# Altium schematic symbol library DRV8313PWP.SchLib: 2 symbols
Pins are listed as number, name and electrical type; pins without a type are passive.

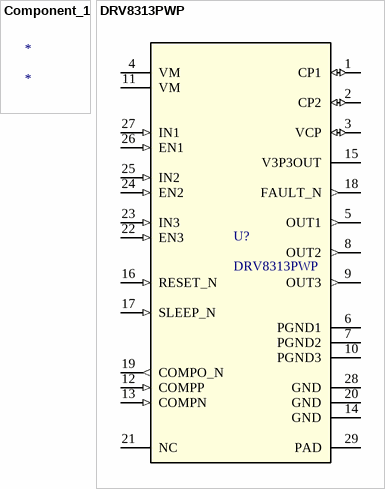
[diagram p0: symbols Component_1 to DRV8313PWP]

## Component_1
designator *

## DRV8313PWP
designator U?
65-V max 3-A peak 3-phase motor driver with integrated FETs 28-HTSSOP -40 to 125; Manufacturer_Name: Texas Instruments; TYPE: TYPE; RefDes: RefDes; Copyright: Copyright (C) 2025 Ultra Librarian. All rights reserved.; Manufacturer_Part_Number: DRV8313PWP; Datasheet: https://www.ti.com/lit/gpn/drv8313
footprint PWP0028F_N
pins: 1 CP1 (io), 2 CP2 (io), 3 VCP (io), 4 VM (power), 5 OUT1 (out), 6 PGND1 (power), 7 PGND2 (power), 8 OUT2 (out), 9 OUT3 (out), 10 PGND3 (power), 11 VM (power), 12 COMPP (in), 13 COMPN (in), 14 GND (power), 15 V3P3OUT (power), 16 RESET_N (in), 17 SLEEP_N (in), 18 FAULT_N (out), 19 COMPO_N (out), 20 GND (power), 21 NC, 22 EN3 (in), 23 IN3 (in), 24 EN2 (in), 25 IN2 (in), 26 EN1 (in), 27 IN1 (in), 28 GND (power), 29 PAD (power)